# EAGLE library part DS3231S (library DS3231S)
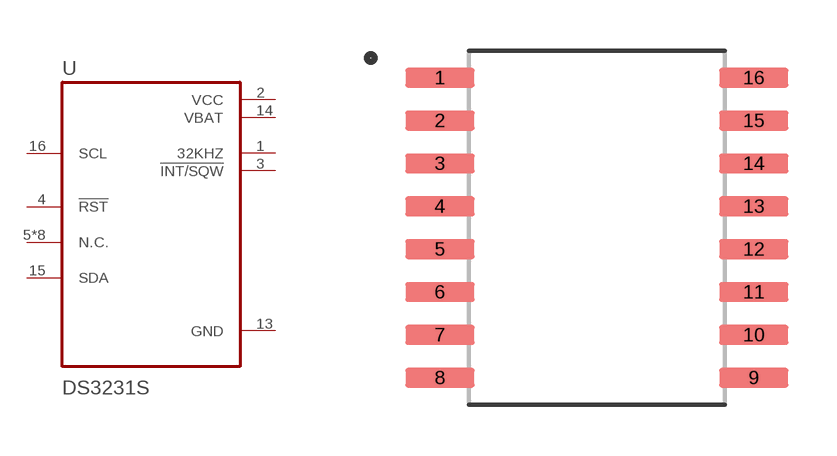
[diagram p0: symbol with the pads of SOIC127P1032X265-16N; footprint SOIC127P1032X265-16N]

Designator prefix U

## DS3231S (Description: Real Time Clock _RTC_ IC Clock/Calendar I²C, 2-Wire Serial 16-SOIC _0.295, 7.50mm Width_; Digi-Key_Part_Number: DS3231S#-ND; Digi-Key_Purchase_URL: https://www.digikey.nl/product-detail/en/maxim-integrated/DS3231S-/DS3231S--ND/1197574?utm_source=snapeda&utm_medium=aggregator&utm_campaign=symbol; MF: Maxim Integrated; MP: DS3231S#; Package: SOIC-16 Maxim)  [SOIC127P1032X265-16N]
1  32KHZ  out
2  VCC  pwr
3  !INT/SQW  out
4  !RST
5  N.C.
6  N.C.
7  N.C.
8  N.C.
9  N.C.
10  N.C.
11  N.C.
12  N.C.
13  GND  pwr
14  VBAT  pwr
15  SDA
16  SCL  in

## Footprint SOIC127P1032X265-16N (pad centres in mm)
smd 2.05 x 0.59: 1 -4.655,4.445; 2 -4.655,3.175; 3 -4.655,1.905; 4 -4.655,0.635; 5 -4.655,-0.635; 6 -4.655,-1.905; 7 -4.655,-3.175; 8 -4.655,-4.445; 9 4.655,-4.445; 10 4.655,-3.175; 11 4.655,-1.905; 12 4.655,-0.635; 13 4.655,0.635; 14 4.655,1.905; 15 4.655,3.175; 16 4.655,4.445